# Altium footprint library SM_IPC_C_2220.PcbLib: 1 footprints
Each footprint in its own frame and in the unit in brackets; x right, y up, seen from the top. Pads: shape width x height; smd on the part's side, far side on the other; paste and mask are expansions set on the pad; w line width, h text height; cw(c..) or ccw(c..) is an arc to the next point about the centre after c.
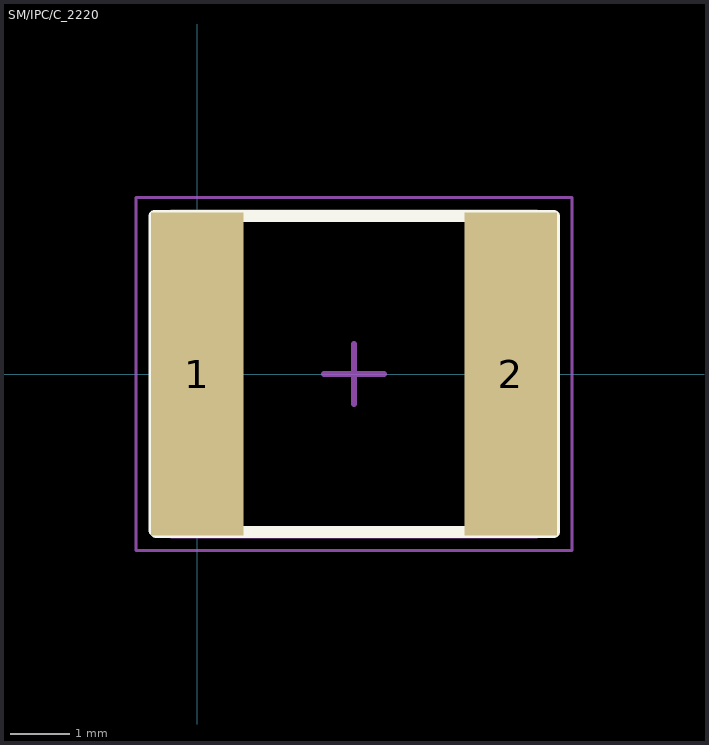
[diagram p0: the footprint, top view; thin cyan lines are the x and y axes]

## SM/IPC/C_2220 [mm]
pads (2):
  rect 1.55x5.4 smd: 1(0,0) 2(5.25,0)
Top Overlay:
  lines w0.203: -0.711,-2.616 -0.686,-2.642 5.969,-2.642 5.969,2.642 -0.711,2.642 -0.711,-2.616
Mechanical 13:
  lines w0.1: -0.425,-2.7 5.675,-2.7 5.675,2.7 -0.425,2.7 -0.425,-2.7
Mechanical 15:
  lines w0.05: -1.025,-2.95 6.275,-2.95 6.275,2.95 -1.025,2.95 -1.025,-2.95
  lines w0.1: 2.125,0 3.125,0 ; 2.625,-0.5 2.625,0.5
3D body: height 2.3, standoff 0, extent 5.075,-2.7 5.675,2.7
3D body: height 2.3, standoff 0, extent -0.425,-2.7 0.175,2.7
3D body: height 2.3, standoff 0, extent 0.175,-2.7 5.075,2.7